# Altium footprint library NHD-0420D3Z.PcbLib: 1 footprints
Each footprint in its own frame and in the unit in brackets; x right, y up, seen from the top. Pads: shape width x height; smd on the part's side, far side on the other; paste and mask are expansions set on the pad; w line width, h text height; cw(c..) or ccw(c..) is an arc to the next point about the centre after c.
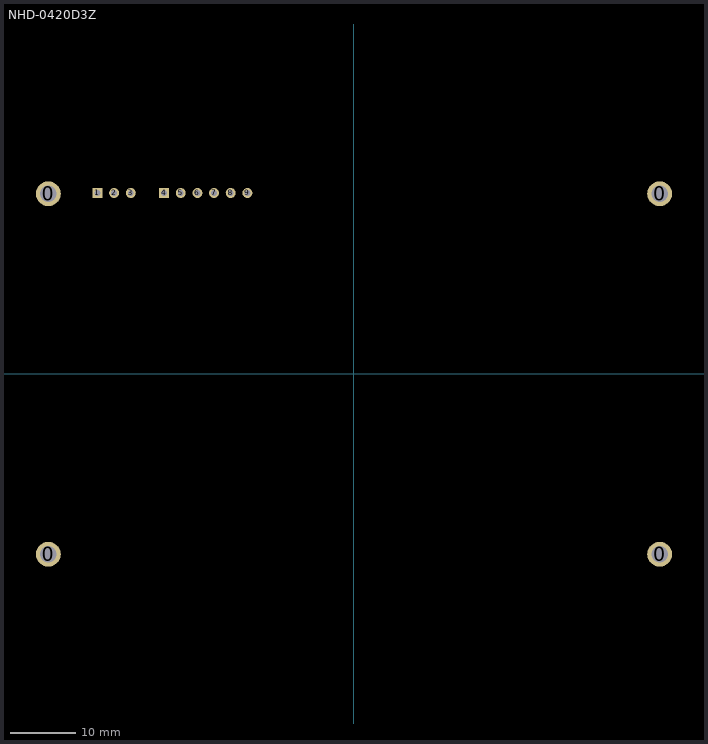
[diagram p0: the footprint, top view; thin cyan lines are the x and y axes]

## NHD-0420D3Z [mil]
pads (13):
  round 150 hole 100: 0(-1835,-1082) 0(-1835,1082) 0(1835,-1082) 0(1835,1082)
  rect 60x60 hole 35: 1(-1540,1087) 4(-1140,1087)
  round 60 hole 35: 2(-1440,1087) 3(-1340,1087) 5(-1040,1087) 6(-940,1087) 7(-840,1087) 8(-740,1087) 9(-640,1087)
3D body: height 523.78, standoff 4.1, extent -1933.26,-1180 1925,1182.2